# Altium footprint library Inductor.PcbLib: 1 footprints
Each footprint in its own frame and in the unit in brackets; x right, y up, seen from the top. Pads: shape width x height; smd on the part's side, far side on the other; paste and mask are expansions set on the pad; w line width, h text height; cw(c..) or ccw(c..) is an arc to the next point about the centre after c.
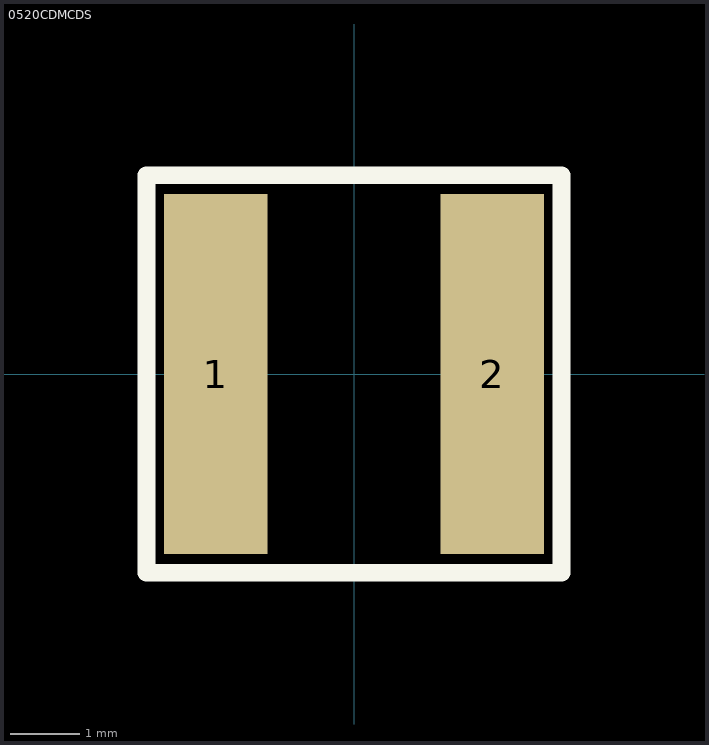
[diagram p0: the footprint, top view; thin cyan lines are the x and y axes]

## 0520CDMCDS [mm] "Inductor Made by Sumida"
height 2
pads (2):
  rect 1.5x5.2 smd paste-0.25: 1(-2,0) 2(2,0)
Top Overlay:
  lines w0.254: -3,-2.875 3,-2.875 3,2.875 -3,2.875 -3,-2.875
3D body: height 2, standoff 0.1, extent -2.875,-2.875 2.875,2.875